# EAGLE library part NTZD5110N (library customics)
Small Signal MOSFET 60 V, 310 mA, Dual N−Channel with ESD Protection, SOT−563 Source: http://www.onsemi.com/pub/Collateral/NTZD5110N-D.PDF
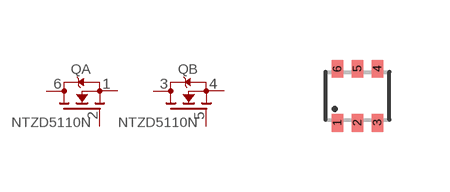
[diagram p4: symbol with the pads of SOT563; footprint SOT563]

Designator prefix Q; gates A=N-MOSFET B=N-MOSFET

## NTZD5110N  [SOT563]
1  A:S  pas
2  A:G  pas
3  B:D  pas
4  B:S  pas
5  B:G  pas
6  A:D  pas

## Footprint SOT563 (pad centres in mm)
SOT-563 Source: www.centralsemi.com ..SOT-563PD.pdf
smd 0.3 x 0.45: 1 -0.5,-0.675; 2 0,-0.675; 3 0.5,-0.675; 4 0.5,0.675; 5 0,0.675; 6 -0.5,0.675